# EAGLE library part 1X10 (library header1mm)
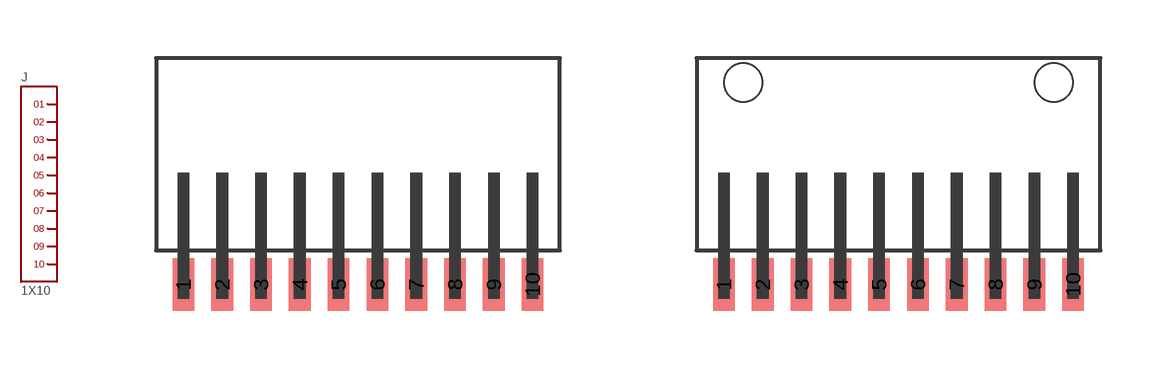
[diagram p0: symbol with the pads of SEI-110-02-XX-S; footprints SEI-110-02-XX-S, SEI-110-02-XX-S-X-AB]

Designator prefix J

## 1X10.SEI  [SEI-110-02-XX-S]
1  1
2  2
3  3
4  4
5  5
6  6
7  7
8  8
9  9
10  10

## 1X10.SEI.AB  [SEI-110-02-XX-S-X-AB]
Pads as for SEI-110-02-XX-S

## 1X10.SEI.AT  [SEI-110-02-XX-S-X-AT]
Pads as for SEI-110-02-XX-S

## 1X10SEI.AB.MATE  [SEI-110-02-XX-S-X-AB.MATE]
Pads as for SEI-110-02-XX-S

## 1X10SEI.AT.MATE  [SEI-110-02-XX-S-X-AT.MATE]
Pads as for SEI-110-02-XX-S

## 1X10SEI.MATE  [SEI-110-02-XX-S.MATE]
Pads as for SEI-110-02-XX-S

## Footprint SEI-110-02-XX-S (pad centres in mm)
smd 0.559 x 1.346: 1 -4.5,-0.88; 2 -3.5,-0.88; 3 -2.5,-0.879; 4 -1.5,-0.88; 5 -0.5,-0.88; 6 0.5,-0.88; 7 1.5,-0.88; 8 2.5,-0.879; 9 3.5,-0.88; 10 4.5,-0.88

## Footprint SEI-110-02-XX-S-X-AB (pad centres in mm)
smd 0.559 x 1.346: 1 -4.5,-0.88; 2 -3.5,-0.88; 3 -2.5,-0.879; 4 -1.5,-0.88; 5 -0.5,-0.88; 6 0.5,-0.88; 7 1.5,-0.88; 8 2.5,-0.879; 9 3.5,-0.88; 10 4.5,-0.88
hole 0.99 at -4,4.32
hole 0.99 at 4,4.32

## Footprint SEI-110-02-XX-S-X-AT (pad centres in mm)
smd 0.559 x 1.346: 1 -4.5,-0.88; 2 -3.5,-0.88; 3 -2.5,-0.879; 4 -1.5,-0.88; 5 -0.5,-0.88; 6 0.5,-0.88; 7 1.5,-0.88; 8 2.5,-0.879; 9 3.5,-0.88; 10 4.5,-0.88

## Footprint SEI-110-02-XX-S-X-AB.MATE (pad centres in mm)
smd 0.56 x 2.477: 1 -4.5,1.2; 2 -3.5,1.2; 3 -2.5,1.2; 4 -1.5,1.2; 5 -0.5,1.2; 6 0.5,1.2; 7 1.5,1.2; 8 2.5,1.2; 9 3.5,1.2; 10 4.5,1.2

## Footprint SEI-110-02-XX-S-X-AT.MATE (pad centres in mm)
smd 0.56 x 2.477: 1 -4.5,1.2; 2 -3.5,1.2; 3 -2.5,1.2; 4 -1.5,1.2; 5 -0.5,1.2; 6 0.5,1.2; 7 1.5,1.2; 8 2.5,1.2; 9 3.5,1.2; 10 4.5,1.2
hole 0.99 at -4,4.32
hole 0.99 at 4,4.32

## Footprint SEI-110-02-XX-S.MATE (pad centres in mm)
smd 0.56 x 2.477: 1 -4.5,1.2; 2 -3.5,1.2; 3 -2.5,1.2; 4 -1.5,1.2; 5 -0.5,1.2; 6 0.5,1.2; 7 1.5,1.2; 8 2.5,1.2; 9 3.5,1.2; 10 4.5,1.2